# Altium footprint library Chip_Capacitor_L.PcbLib: 24 footprints (part 2 of 2)
Each footprint in its own frame and in the unit in brackets; x right, y up, seen from the top. Pads: shape width x height; smd on the part's side, far side on the other; paste and mask are expansions set on the pad; w line width, h text height; cw(c..) or ccw(c..) is an arc to the next point about the centre after c.
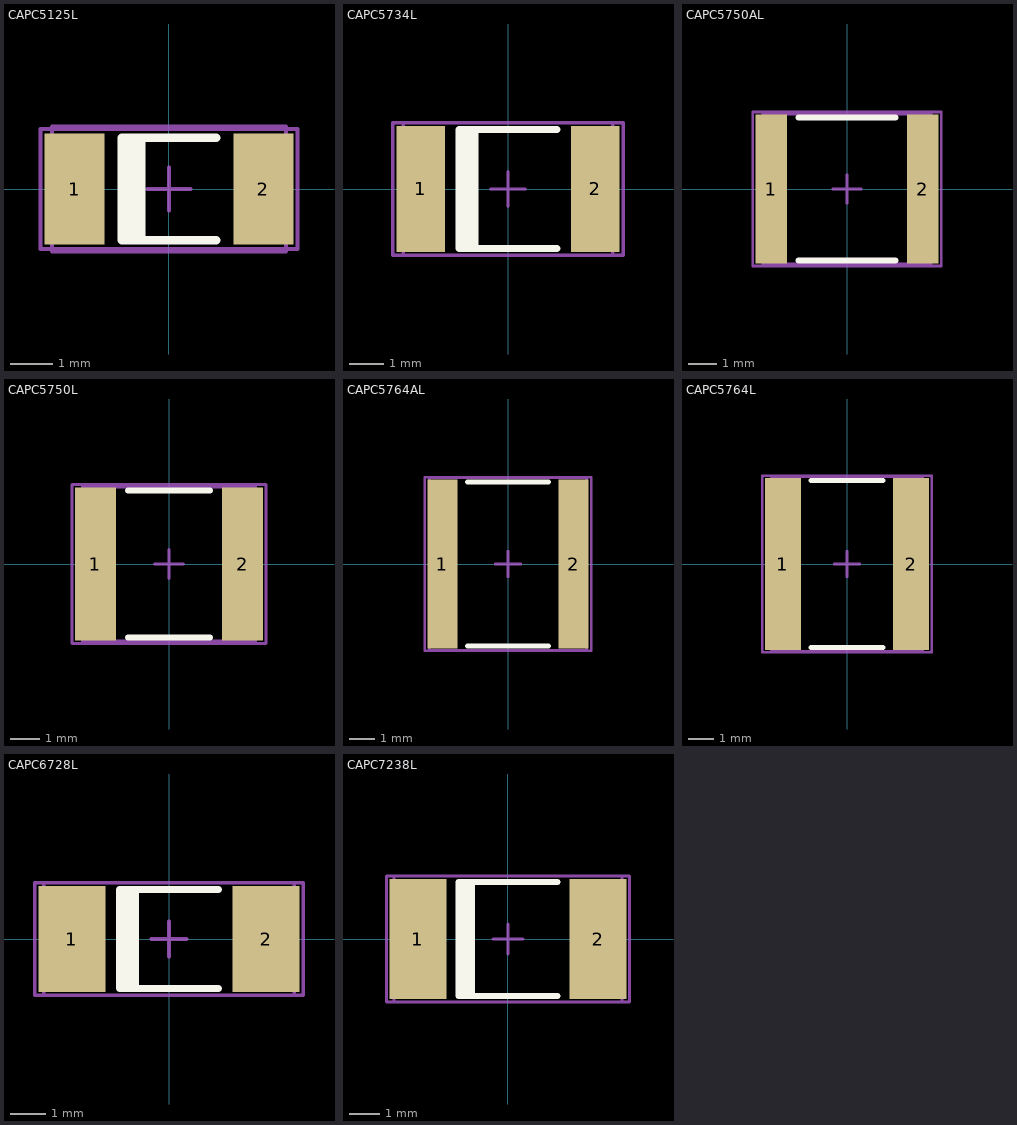
[diagram p1: the footprints below, top view; thin cyan lines are the x and y axes]

## CAPC5125L [mm] "Chip Capacitor, Body 5.08x2.54mm, IPC High Density"
height 1.66
pads (2):
  rect 1.4x2.6 smd: 1(-2.2,0) 2(2.2,0)
Top Overlay:
  rectangle: -1.1,-1.2 -0.55,1.2
  lines w0.2: 1.1,-1.2 -1.1,-1.2 -1.1,1.2 1.1,1.2
Mechanical 13:
  lines w0.1: -2.73,-1.45 -2.73,1.45 2.73,1.45 2.73,-1.45 -2.73,-1.45
Mechanical 15:
  lines w0.1: -0.5,0 0.5,0 ; 0,-0.5 0,0.5 ; -3,-1.4 -3,1.4 3,1.4 3,-1.4 -3,-1.4
3D body: height 1.66, standoff 0, extent -2.73,-1.45 2.73,1.45

## CAPC5734L [mm] "Chip Capacitor, Body 5.7x3.4mm, IPC High Density"
height 2.16
pads (2):
  rect 1.4x3.6 smd: 1(-2.5,0) 2(2.5,0)
Top Overlay:
  rectangle: -1.4,-1.7 -0.85,1.7
  lines w0.2: 1.4,-1.7 -1.4,-1.7 -1.4,1.7 1.4,1.7
Mechanical 13:
  lines w0.1: -3,-1.9 -3,1.9 3,1.9 3,-1.9 -3,-1.9
Mechanical 15:
  lines w0.1: -0.5,0 0.5,0 ; 0,-0.5 0,0.5 ; -3.3,-1.9 -3.3,1.9 3.3,1.9 3.3,-1.9 -3.3,-1.9
3D body: height 2.16, standoff 0, extent -3,-1.9 3,1.9

## CAPC5750AL [mm] "Chip Capacitor, Body 5.7x5.0mm, IPC High Density"
height 1.8
pads (2):
  rect 1.1x5.2 smd: 1(-2.65,0) 2(2.65,0)
Top Overlay:
  lines w0.2: -1.7,-2.5 1.7,-2.5 ; -1.7,2.5 1.7,2.5
Mechanical 13:
  lines w0.1: -2.95,-2.625 -2.95,2.625 2.95,2.625 2.95,-2.625 -2.95,-2.625
Mechanical 15:
  lines w0.1: -0.5,0 0.5,0 ; 0,-0.5 0,0.5 ; -3.3,-2.7 -3.3,2.7 3.3,2.7 3.3,-2.7 -3.3,-2.7
3D body: height 1.8, standoff 0, extent -2.95,-2.625 2.95,2.625

## CAPC5750L [mm] "Chip Capacitor, Body 5.7x5.0mm, IPC High Density"
height 1.35
pads (2):
  rect 1.4x5.2 smd: 1(-2.5,0) 2(2.5,0)
Top Overlay:
  lines w0.2: -1.4,-2.5 1.4,-2.5 ; -1.4,2.5 1.4,2.5
Mechanical 13:
  lines w0.1: -2.95,-2.625 2.95,-2.625 2.95,2.625 -2.95,2.625 -2.95,-2.625
Mechanical 15:
  lines w0.1: -0.5,0 0.5,0 ; 0,-0.5 0,0.5 ; -3.3,-2.7 3.3,-2.7 3.3,2.7 -3.3,2.7 -3.3,-2.7
3D body: height 1.35, standoff 0, extent -2.95,-2.625 2.95,2.625

## CAPC5764AL [mm] "Chip Capacitor, Body 5.7x6.4mm, IPC High Density"
height 2.03
pads (2):
  rect 1.2x6.7 smd: 1(-2.6,0) 2(2.6,0)
Top Overlay:
  lines w0.2: -1.6,-3.25 1.6,-3.25 ; -1.6,3.25 1.6,3.25
Mechanical 13:
  lines w0.1: -3.115,-3.43 -3.115,3.43 3.115,3.43 3.115,-3.43 -3.115,-3.43
Mechanical 15:
  lines w0.1: -0.5,0 0.5,0 ; 0,-0.5 0,0.5 ; -3.3,-3.45 -3.3,3.45 3.3,3.45 3.3,-3.45 -3.3,-3.45
3D body: height 2.03, standoff 0, extent -3.115,-3.43 3.115,3.43

## CAPC5764L [mm] "Chip Capacitor, Body 5.7x6.4mm, IPC High Density"
height 2
pads (2):
  rect 1.4x6.7 smd: 1(-2.5,0) 2(2.5,0)
Top Overlay:
  lines w0.2: -1.4,-3.25 1.4,-3.25 ; -1.4,3.25 1.4,3.25
Mechanical 13:
  lines w0.1: -2.95,-3.4 -2.95,3.4 2.95,3.4 2.95,-3.4 -2.95,-3.4
Mechanical 15:
  lines w0.1: -0.5,0 0.5,0 ; 0,-0.5 0,0.5 ; -3.3,-3.45 -3.3,3.45 3.3,3.45 3.3,-3.45 -3.3,-3.45
3D body: height 2, standoff 0, extent -2.95,-3.4 2.95,3.4

## CAPC6728L [mm] "Chip Capacitor, Body 6.7x2.8mm, IPC High Density"
height 3.18
pads (2):
  rect 1.9x3 smd: 1(-2.75,0) 2(2.75,0)
Top Overlay:
  rectangle: -1.4,-1.4 -0.85,1.4
  lines w0.2: 1.4,-1.4 -1.4,-1.4 -1.4,1.4 1.4,1.4
Mechanical 13:
  lines w0.1: -3.55,-1.6 -3.55,1.6 3.55,1.6 3.55,-1.6 -3.55,-1.6
Mechanical 15:
  lines w0.1: -0.5,0 0.5,0 ; 0,-0.5 0,0.5 ; -3.8,-1.6 -3.8,1.6 3.8,1.6 3.8,-1.6 -3.8,-1.6
3D body: height 3.18, standoff 0, extent -3.55,-1.6 3.55,1.6

## CAPC7238L [mm] "Chip Capacitor, Body 7.2x3.8mm, IPC High Density"
height 3.18
pads (2):
  rect 1.9x4 smd: 1(-3,0) 2(3,0)
Top Overlay:
  rectangle: -1.65,-1.9 -1.1,1.9
  lines w0.2: 1.65,-1.9 -1.65,-1.9 -1.65,1.9 1.65,1.9
Mechanical 13:
  lines w0.1: -3.8,-2.1 -3.8,2.1 3.8,2.1 3.8,-2.1 -3.8,-2.1
Mechanical 15:
  lines w0.1: -0.5,0 0.5,0 ; 0,-0.5 0,0.5 ; -4.05,-2.1 -4.05,2.1 4.05,2.1 4.05,-2.1 -4.05,-2.1
3D body: height 3.18, standoff 0, extent -3.8,-2.1 3.8,2.1